# Altium footprint library 691 244 510 0xx.PcbLib: 9 footprints
Each footprint in its own frame and in the unit in brackets; x right, y up, seen from the top. Pads: shape width x height; smd on the part's side, far side on the other; paste and mask are expansions set on the pad; w line width, h text height; cw(c..) or ccw(c..) is an arc to the next point about the centre after c.
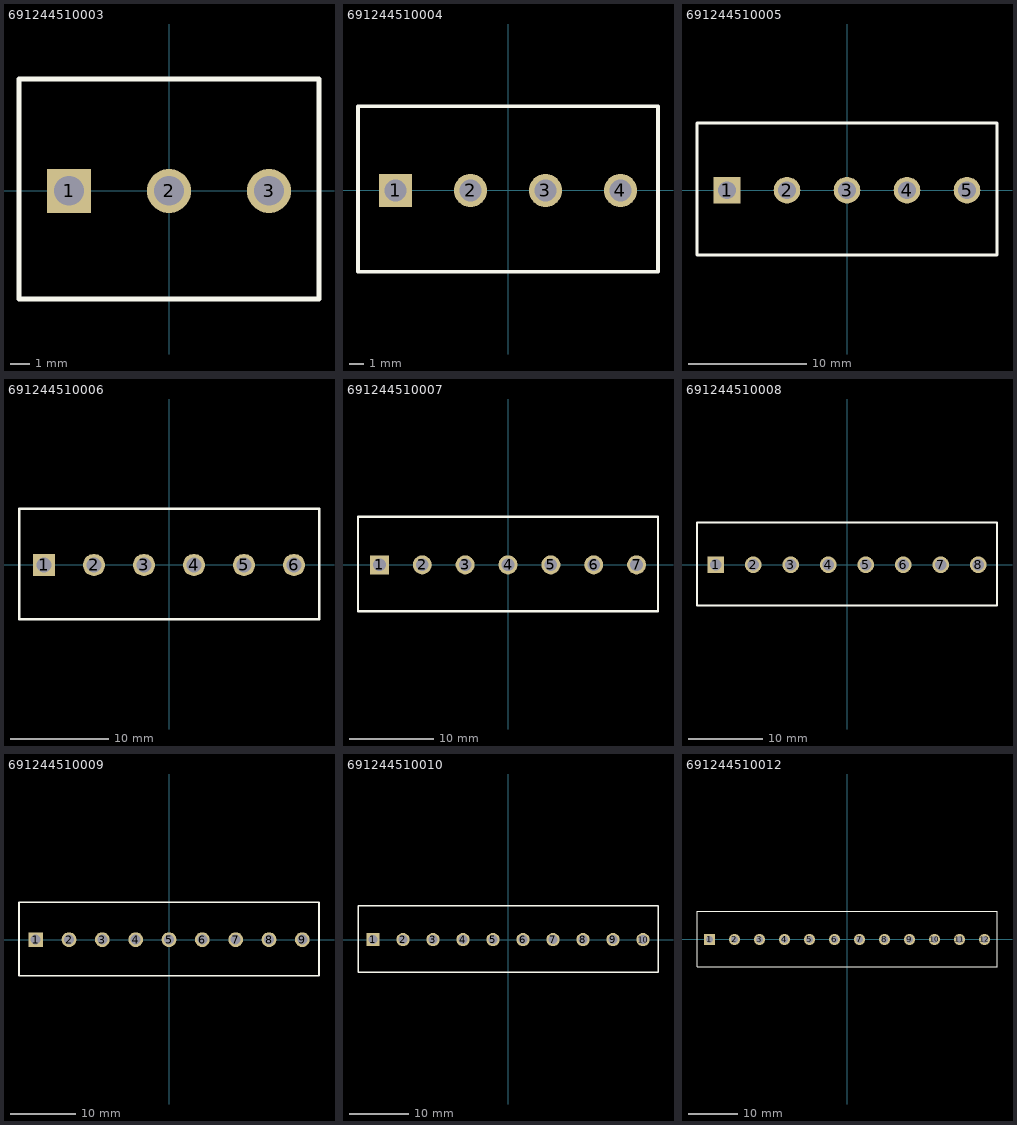
[diagram p0: the footprints below, top view; thin cyan lines are the x and y axes]

## 691244510003 [mm] "Serie 2445 - 5.08 mm _ 3 pins"
height 18
pads (3):
  rect 2.25x2.25 hole 1.5: 1(-5.08,0)
  round 2.25 hole 1.5: 2(0,0) 3(5.08,0)
Top Overlay:
  lines w0.254: -7.62,-5.5 7.62,-5.5 7.62,5.7 -7.62,5.7 -7.62,-5.5

## 691244510004 [mm] "Serie 2445 - 5.08 mm _ 4 pins"
height 18
pads (4):
  rect 2.25x2.25 hole 1.5: 1(-7.62,0)
  round 2.25 hole 1.5: 2(-2.54,0) 3(2.54,0) 4(7.62,0)
Top Overlay:
  lines w0.254: -10.16,-5.5 -10.16,5.7 10.16,5.7 10.16,-5.5 -10.16,-5.5
3D body: height 18.1, standoff -3.9, extent -10.21,-5.55 10.11,5.65

## 691244510005 [mm] "Serie 2445 - 5.08 mm _ 5 pins"
height 18
pads (5):
  rect 2.25x2.25 hole 1.5: 1(-10.16,0)
  round 2.25 hole 1.5: 2(-5.08,0) 3(0,0) 4(5.08,0) 5(10.16,0)
Top Overlay:
  lines w0.254: -12.7,-5.5 12.7,-5.5 12.7,5.7 -12.7,5.7 -12.7,-5.5
3D body: height 18.1, standoff -3.9, extent -12.7,-5.5 12.7,5.7

## 691244510006 [mm] "Serie 2445 - 5.08 mm _ 6 pins"
height 18
pads (6):
  rect 2.25x2.25 hole 1.5: 1(-12.7,0)
  round 2.25 hole 1.5: 2(-7.62,0) 3(-2.54,0) 4(2.54,0) 5(7.62,0) 6(12.7,0)
Top Overlay:
  lines w0.254: -15.24,-5.5 15.24,-5.5 15.24,5.7 -15.24,5.7 -15.24,-5.5
3D body: height 18.1, standoff -3.9, extent -15.2,-5.5 15.28,5.7

## 691244510007 [mm] "Serie 2445 - 5.08 mm _ 7 pins"
height 18
pads (7):
  rect 2.25x2.25 hole 1.5: 1(-15.24,0)
  round 2.25 hole 1.5: 2(-10.16,0) 3(-5.08,0) 4(0,0) 5(5.08,0) 6(10.16,0) 7(15.24,0)
Top Overlay:
  lines w0.254: -17.78,-5.5 -17.78,5.7 17.78,5.7 17.78,-5.5 -17.78,-5.5
3D body: height 18.1, standoff -3.9, extent -17.75,-5.5 17.81,5.7

## 691244510008 [mm] "Serie 2445 - 5.08 mm _ 8 pins"
height 18
pads (8):
  rect 2.25x2.25 hole 1.5: 1(-17.78,0)
  round 2.25 hole 1.5: 2(-12.7,0) 3(-7.62,0) 4(-2.54,0) 5(2.54,0) 6(7.62,0) 7(12.7,0) 8(17.78,0)
Top Overlay:
  lines w0.254: -20.32,-5.5 20.32,-5.5 20.32,5.7 -20.32,5.7 -20.32,-5.5
3D body: height 18.1, standoff -3.9, extent -20.3,-5.5 20.34,5.7

## 691244510009 [mm] "Serie 2445 - 5.08 mm _ 9 pins"
height 18
pads (9):
  rect 2.25x2.25 hole 1.5: 1(-20.32,0)
  round 2.25 hole 1.5: 2(-15.24,0) 3(-10.16,0) 4(-5.08,0) 5(0,0) 6(5.08,0) 7(10.16,0) 8(15.24,0) 9(20.32,0)
Top Overlay:
  lines w0.254: -22.86,-5.5 22.86,-5.5 22.86,5.7 -22.86,5.7 -22.86,-5.5
3D body: height 18.1, standoff -3.9, extent -22.85,-5.5 22.87,5.7

## 691244510010 [mm] "Serie 2445 - 5.08 mm _ 10 pins"
height 18
pads (10):
  rect 2.25x2.25 hole 1.5: 1(-22.86,0)
  round 2.25 hole 1.5: 2(-17.78,0) 3(-12.7,0) 4(-7.62,0) 5(-2.54,0) 6(2.54,0) 7(7.62,0) 8(12.7,0) 9(17.78,0) 10(22.86,0)
Top Overlay:
  lines w0.254: -25.4,-5.5 25.4,-5.5 25.4,5.7 -25.4,5.7 -25.4,-5.5
3D body: height 18.1, standoff -3.9, extent -25.4,-5.5 25.4,5.7

## 691244510012 [mm] "Serie 2445 - 5.08 mm _ 12 pins"
height 18
pads (12):
  rect 2.25x2.25 hole 1.5: 1(-27.94,0)
  round 2.25 hole 1.5: 2(-22.86,0) 3(-17.78,0) 4(-12.7,0) 5(-7.62,0) 6(-2.54,0) 7(2.54,0) 8(7.62,0) 9(12.7,0) 10(17.78,0) 11(22.86,0) 12(27.94,0)
Top Overlay:
  lines w0.254: -30.48,-5.5 30.48,-5.5 30.48,5.7 -30.48,5.7 -30.48,-5.5